# Altium footprint library PCBLib.PcbLib: 32 footprints (part 1 of 2)
Each footprint in its own frame and in the unit in brackets; x right, y up, seen from the top. Pads: shape width x height; smd on the part's side, far side on the other; paste and mask are expansions set on the pad; w line width, h text height; cw(c..) or ccw(c..) is an arc to the next point about the centre after c.
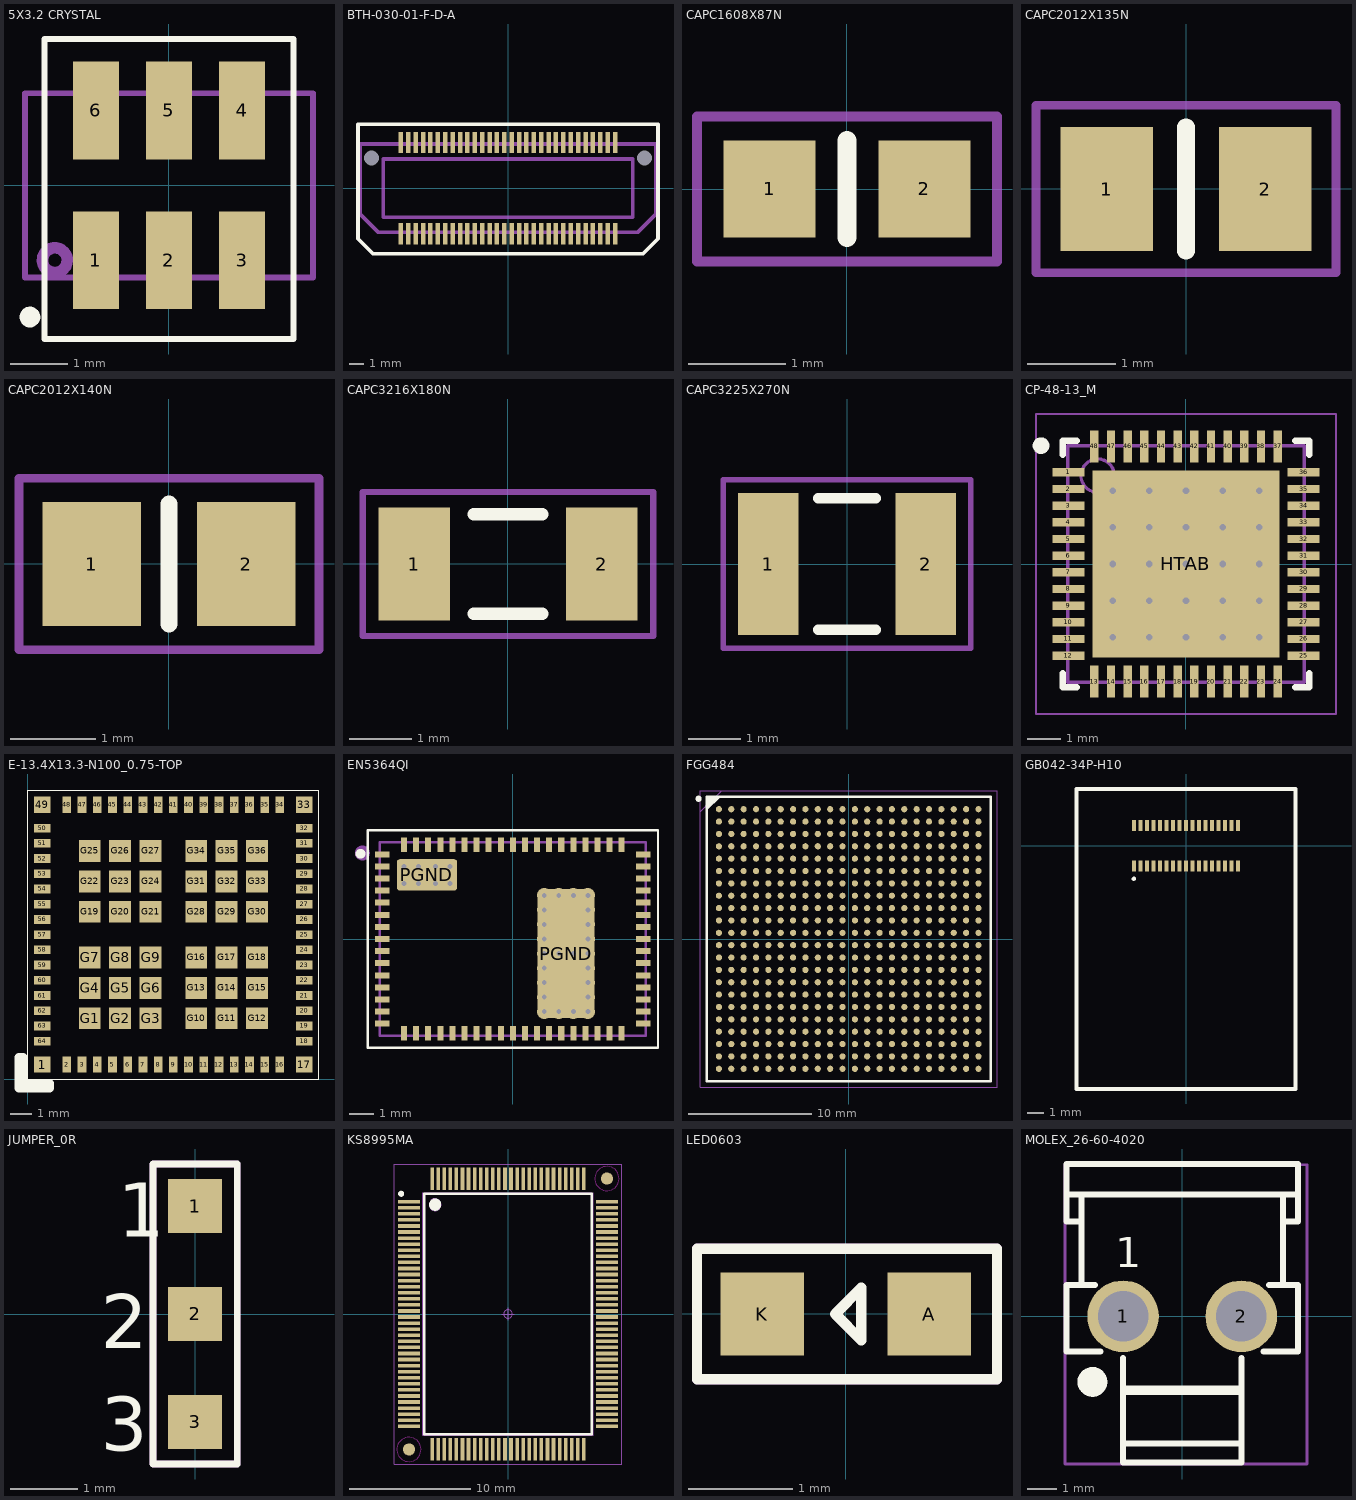
[diagram p0: the footprints below, top view; thin cyan lines are the x and y axes]

## 5X3.2 CRYSTAL [mm] "5X3.2 Crystal"
height 1.2
pads (6):
  rect 0.8x1.7 smd: 1(-1.27,-1.3) 2(0,-1.3) 3(1.27,-1.3) 4(1.27,1.3) 5(0,1.3) 6(-1.27,1.3)
Top Overlay:
  circle w0.2: c-2.413,-2.286 r0.079
  lines w0.1: -2.159,-2.667 2.159,-2.667 2.159,2.54 -2.159,2.54 -2.159,-0.858 -2.159,-2.667
Mechanical 4:
  lines w0.1: -2.5,-1.6 -2.5,1.6 2.5,1.6 2.5,-1.6 -2.5,-1.6
  lines w0.2: -1.809,-1.173 ccw(c-1.981,-1.3) -1.792,-1.199
  text ".designator" at -2.032,-0.508 h1
3D body "User Library-CRYSTALSMD5X32.STEP": height 1, standoff 0, extent -2.5,-1.625 2.5,1.575

## BTH-030-01-F-D-A [mm]
pads (62):
  rect 0.305x1.448 smd: 1(-7.25,3.086) 2(-7.25,-3.086) 3(-6.75,3.086) 4(-6.75,-3.086) 5(-6.25,3.086) 6(-6.25,-3.086) 7(-5.75,3.086) 8(-5.75,-3.086) 9(-5.25,3.086) 10(-5.25,-3.086) 11(-4.75,3.086) 12(-4.75,-3.086) 13(-4.25,3.086) 14(-4.25,-3.086) 15(-3.75,3.086) 16(-3.75,-3.086) 17(-3.25,3.086) 18(-3.25,-3.086) 19(-2.75,3.086) 20(-2.75,-3.086) 21(-2.25,3.086) 22(-2.25,-3.086) 23(-1.75,3.086) 24(-1.75,-3.086) 25(-1.25,3.086) 26(-1.25,-3.086) 27(-0.75,3.086) 28(-0.75,-3.086) 29(-0.25,3.086) 30(-0.25,-3.086) 31(0.25,3.086) 32(0.25,-3.086) 33(0.75,3.086) 34(0.75,-3.086) 35(1.25,3.086) 36(1.25,-3.086) 37(1.75,3.086) 38(1.75,-3.086) 39(2.25,3.086) 40(2.25,-3.086) 41(2.75,3.086) 42(2.75,-3.086) 43(3.25,3.086) 44(3.25,-3.086) 45(3.75,3.086) 46(3.75,-3.086) 47(4.25,3.086) 48(4.25,-3.086) 49(4.75,3.086) 50(4.75,-3.086) 51(5.25,3.086) 52(5.25,-3.086) 53(5.75,3.086) 54(5.75,-3.086) 55(6.25,3.086) 56(6.25,-3.086) 57(6.75,3.086) 58(6.75,-3.086) 59(7.25,3.086) 60(7.25,-3.086)
  round 0.8 hole 1.016 unplated mask+0.358: HOLE(-9.238,2.032) HOLE(9.238,2.032)
Top Overlay:
  lines w0.254: -10.16,-3.429 -10.16,4.318 10.16,4.318 10.16,-3.429 9.144,-4.445 -9.144,-4.445 -10.16,-3.429
Mechanical 4:
  lines w0.254: -10,-1.785 -10,2.984 10,2.984 10,-1.785 8.8,-2.985 -8.8,-2.985 -10,-1.785 ; -8.444,-1.969 -8.444,1.968 8.444,1.968 8.444,-1.969 -8.444,-1.969
  text ".Designator" at 0,0 h1
3D body "BTH-030-01-F-D-A.stp": height 4.27, standoff -0.75, extent -10.001,-3.556 10.001,3.556

## CAPC1608X87N [mm] "Chip Capacitor, Body 1.6x0.8mm IPC Medium Density"
height 0.87
pads (2):
  rect 0.95x1 smd: 1(-0.8,0) 2(0.8,0)
Top Overlay:
  lines w0.2: 0,-0.5 0,0.5
Mechanical 4:
  lines w0.1: -1.55,-0.75 1.55,-0.75 1.55,0.75 -1.55,0.75 -1.55,-0.75
  text ".Designator" at -1.524,-0.889 h1
3D body "CAPC1608X87N.stp": height 0.87, standoff 0, extent -0.875,-0.475 0.875,0.475

## CAPC2012X135N [mm] "Chip Capacitor, Body 2.0x1.25mm, IPC Medium Density"
height 1.35
pads (2):
  rect 1.05x1.4 smd: 1(-0.9,0) 2(0.9,0)
Top Overlay:
  lines w0.2: 0,-0.7 0,0.7
Mechanical 4:
  lines w0.1: -1.7,-0.95 -1.7,0.95 1.7,0.95 1.7,-0.95 -1.7,-0.95
  text ".Designator" at -1.6,-0.85 h1
3D body "CAPC2012X135N.stp": height 1.25, standoff 0, extent -1.05,-0.675 1.05,0.675

## CAPC2012X140N [mm] "Chip Capacitor, Body 2.0x1.25mm, IPC Medium Density"
height 1.4
pads (2):
  rect 1.15x1.45 smd: 1(-0.9,0) 2(0.9,0)
Top Overlay:
  lines w0.2: 0,-0.7 0,0.7
Mechanical 4:
  lines w0.1: -1.75,-1 1.75,-1 1.75,1 -1.75,1 -1.75,-1
  text ".Designator" at -1.524,-0.762 h1
3D body "CAPC2012X140N.stp": height 1.3, standoff 0, extent -1.05,-0.675 1.05,0.675

## CAPC3216X180N [mm] "Chip Capacitor, Body 3.2x1.6mm, IPC Medium Density"
height 1.8
pads (2):
  rect 1.15x1.8 smd: 1(-1.5,0) 2(1.5,0)
Top Overlay:
  lines w0.2: -0.55,-0.8 0.55,-0.8 ; -0.55,0.8 0.55,0.8
Mechanical 4:
  lines w0.1: -2.325,-1.15 -2.325,1.15 2.325,1.15 2.325,-1.15 -2.325,-1.15
  text ".Designator" at -2.175,-1 h1
3D body "CAPC3216X180N.stp": height 1.8, standoff 0, extent -1.7,-0.9 1.7,0.9

## CAPC3225X270N [mm] "Chip Capacitor, Body 3.2x2.5mm, IPC Medium Density"
height 2.7
pads (2):
  rect 1.15x2.7 smd: 1(-1.5,0) 2(1.5,0)
Top Overlay:
  lines w0.2: -0.55,-1.25 0.55,-1.25 ; -0.55,1.25 0.55,1.25
Mechanical 4:
  lines w0.1: -2.35,-1.6 2.35,-1.6 2.35,1.6 -2.35,1.6 -2.35,-1.6
  text ".Designator" at -2.15,-0.75 h1
3D body "CAPC3225X270N.stp": height 2.7, standoff 0, extent -1.7,-1.35 1.7,1.35

## CP-48-13_M [mm] "QFN, 48-Leads, Body 7x7mm, Pitch 0.5mm, Thermal Pad 5.6x5.6mm, IPC Low Density"
height 0.8
pads (49):
  rect 0.95x0.25 smd: 1(-3.525,2.75) 2(-3.525,2.25) 3(-3.525,1.75) 4(-3.525,1.25) 5(-3.525,0.75) 6(-3.525,0.25) 7(-3.525,-0.25) 8(-3.525,-0.75) 9(-3.525,-1.25) 10(-3.525,-1.75) 11(-3.525,-2.25) 12(-3.525,-2.75) 25(3.525,-2.75) 26(3.525,-2.25) 27(3.525,-1.75) 28(3.525,-1.25) 29(3.525,-0.75) 30(3.525,-0.25) 31(3.525,0.25) 32(3.525,0.75) 33(3.525,1.25) 34(3.525,1.75) 35(3.525,2.25) 36(3.525,2.75)
  rect 0.25x0.95 smd: 13(-2.75,-3.525) 14(-2.25,-3.525) 15(-1.75,-3.525) 16(-1.25,-3.525) 17(-0.75,-3.525) 18(-0.25,-3.525) 19(0.25,-3.525) 20(0.75,-3.525) 21(1.25,-3.525) 22(1.75,-3.525) 23(2.25,-3.525) 24(2.75,-3.525) 37(2.75,3.525) 38(2.25,3.525) 39(1.75,3.525) 40(1.25,3.525) 41(0.75,3.525) 42(0.25,3.525) 43(-0.25,3.525) 44(-0.75,3.525) 45(-1.25,3.525) 46(-1.75,3.525) 47(-2.25,3.525) 48(-2.75,3.525)
  rect 5.6x5.6 smd: HTAB(0,0)
via 2.2,-2.2 diameter 0.5 hole 0.2
via 1.1,-2.2 diameter 0.5 hole 0.2
via 0,-2.2 diameter 0.5 hole 0.2
via -1.1,-2.2 diameter 0.5 hole 0.2
via -2.2,-2.2 diameter 0.5 hole 0.2
via 2.2,-1.1 diameter 0.5 hole 0.2
via 1.1,-1.1 diameter 0.5 hole 0.2
via 0,-1.1 diameter 0.5 hole 0.2
via -1.1,-1.1 diameter 0.5 hole 0.2
via -2.2,-1.1 diameter 0.5 hole 0.2
via 2.2,0 diameter 0.5 hole 0.2
via 1.1,0 diameter 0.5 hole 0.2
via 0,0 diameter 0.5 hole 0.2
via -1.1,0 diameter 0.5 hole 0.2
via -2.2,0 diameter 0.5 hole 0.2
via 2.2,1.1 diameter 0.5 hole 0.2
via 1.1,1.1 diameter 0.5 hole 0.2
via 0,1.1 diameter 0.5 hole 0.2
via -1.1,1.1 diameter 0.5 hole 0.2
via -2.2,1.1 diameter 0.5 hole 0.2
via 2.2,2.2 diameter 0.5 hole 0.2
via 1.1,2.2 diameter 0.5 hole 0.2
via 0,2.2 diameter 0.5 hole 0.2
via -1.1,2.2 diameter 0.5 hole 0.2
via -2.2,2.2 diameter 0.5 hole 0.2
Top Overlay:
  circle w0.25: c-4.35,3.55 r0.125
  lines w0.2: -3.7,-3.275 -3.7,-3.7 -3.275,-3.7 ; -3.7,3.275 -3.7,3.7 -3.275,3.7 ; 3.275,-3.7 3.7,-3.7 3.7,-3.275 ; 3.275,3.7 3.7,3.7 3.7,3.275
Mechanical 13:
  circle w0.1: c-2.65,2.65 r0.5
  lines w0.1: -3.55,-3.55 3.55,-3.55 3.55,3.55 -3.55,3.55 -3.55,-3.55
Mechanical 15:
  lines w0.05: -4.5,-4.5 4.5,-4.5 4.5,4.5 -4.5,4.5 -4.5,-4.5
  lines w0.1: -0.5,0 0.5,0 ; 0,-0.5 0,0.5
3D body "CP_48_13-M.stp": height 0.78, standoff 0, extent -3.55,-3.55 3.55,3.55

## E-13.4X13.3-N100_0.75-TOP [mm]
pads (100):
  rect 0.75x0.75 smd mask+0.03: 1(0.675,0.675) 17(12.725,0.675) 33(12.725,12.625) 49(0.675,12.625)
  rect 0.4x0.75 smd mask+0.03: 2(1.8,0.675) 3(2.5,0.675) 4(3.2,0.675) 5(3.9,0.675) 6(4.6,0.675) 7(5.3,0.675) 8(6,0.675) 9(6.7,0.675) 10(7.4,0.675) 11(8.1,0.675) 12(8.8,0.675) 13(9.5,0.675) 14(10.2,0.675) 15(10.9,0.675) 16(11.6,0.675) 34(11.6,12.625) 35(10.9,12.625) 36(10.2,12.625) 37(9.5,12.625) 38(8.8,12.625) 39(8.1,12.625) 40(7.4,12.625) 41(6.7,12.625) 42(6,12.625) 43(5.3,12.625) 44(4.6,12.625) 45(3.9,12.625) 46(3.2,12.625) 47(2.5,12.625) 48(1.8,12.625)
  rect 0.75x0.4 smd mask+0.03: 18(12.725,1.75) 19(12.725,2.45) 20(12.725,3.15) 21(12.725,3.85) 22(12.725,4.55) 23(12.725,5.25) 24(12.725,5.95) 25(12.725,6.65) 26(12.725,7.35) 27(12.725,8.05) 28(12.725,8.75) 29(12.725,9.45) 30(12.725,10.15) 31(12.725,10.85) 32(12.725,11.55) 50(0.675,11.55) 51(0.675,10.85) 52(0.675,10.15) 53(0.675,9.45) 54(0.675,8.75) 55(0.675,8.05) 56(0.675,7.35) 57(0.675,6.65) 58(0.675,5.95) 59(0.675,5.25) 60(0.675,4.55) 61(0.675,3.85) 62(0.675,3.15) 63(0.675,2.45) 64(0.675,1.75)
  rect 1x1 smd mask+0.03: G1(2.85,2.8) G2(4.25,2.8) G3(5.65,2.8) G4(2.85,4.2) G5(4.25,4.2) G6(5.65,4.2) G7(2.85,5.6) G8(4.25,5.6) G9(5.65,5.6) G10(7.75,2.8) G11(9.15,2.8) G12(10.55,2.8) G13(7.75,4.2) G14(9.15,4.2) G15(10.55,4.2) G16(7.75,5.6) G17(9.15,5.6) G18(10.55,5.6) G19(2.85,7.7) G20(4.25,7.7) G21(5.65,7.7) G22(2.85,9.1) G23(4.25,9.1) G24(5.65,9.1) G25(2.85,10.5) G26(4.25,10.5) G27(5.65,10.5) G28(7.75,7.7) G29(9.15,7.7) G30(10.55,7.7) G31(7.75,9.1) G32(9.15,9.1) G33(10.55,9.1) G34(7.75,10.5) G35(9.15,10.5) G36(10.55,10.5)
Top Overlay:
  lines w0.05: 0,0 0,13.3 13.4,13.3 13.4,0 0,0
  lines w0.4: -0.4,-0.4 -0.4,1 -0.2,1 -0.2,-0.2 1,-0.2 1,-0.4 -0.4,-0.4
3D body: height 2.1, standoff 0, extent 0.97,0.97 1.57,1.57
3D body: height 2, standoff 0, extent 0,0 13.335,13.335

## EN5364QI [mm]
pads (70):
  rect 0.25x0.6 smd: AGND(2,3.9) AVIN(3,3.9) EAOUT(1,3.9) EN_PB(4,3.9) ENABLE(3.5,3.9) M/S(4.5,3.9) MAR1(-1,3.9) MAR2(-1.5,3.9) NC(-4.5,-3.9) NC(-4,-3.9) NC(-3.5,-3.9) NC(-3,-3.9) NC(-2.5,-3.9) NC(-2,-3.9) NC(-1.5,-3.9) NC(-1,-3.9) NC(-0.5,-3.9) NC(0,-3.9) NC(0.5,-3.9) OCP_ADJ(0.5,3.9) PGND(-4.5,3.9) PGND(-4,3.9) PGND(-3.5,3.9) PGND(-3,3.9) PGND(-2.5,3.9) PGND(1,-3.9) PGND(1.5,-3.9) PGND(2,-3.9) PGND(2.5,-3.9) PGND(3,-3.9) PGND(3.5,-3.9) PGND(4,-3.9) POK(2.5,3.9) PVIN(4.5,-3.9) S_DELAY(-0.5,3.9) SS(0,3.9) VFB(1.5,3.9) VSENSE(-2,3.9)
  rect 0.6x0.25 smd: NC(-5.4,-3.5) NC(-5.4,-3) NC(5.4,1) NC(5.4,1.5) NC(5.4,2) NC(5.4,2.5) PGND(-5.4,2) PGND(-5.4,2.5) PGND(-5.4,3) PGND(-5.4,3.5) PVIN(5.4,-3.5) PVIN(5.4,-3) PVIN(5.4,-2.5) PVIN(5.4,-2) PVIN(5.4,-1.5) PVIN(5.4,-1) PVIN(5.4,-0.5) PVIN(5.4,0) PVIN(5.4,0.5) SIN(5.4,3.5) SOUT(5.4,3) VOUT(-5.4,-2.5) VOUT(-5.4,-2) VOUT(-5.4,-1.5) VOUT(-5.4,-1) VOUT(-5.4,-0.5) VOUT(-5.4,0) VOUT(-5.4,0.5) VOUT(-5.4,1) VOUT(-5.4,1.5)
  rrect20% 2.5x1.3 smd: PGND(-3.55,2.65)
  rrect20% 2.35x5.35 smd: PGND(2.2,-0.6)
via -4.5,3 diameter 0.6 hole 0.2
via -4.5,2.3 diameter 0.6 hole 0.2
via -3.9,2.3 diameter 0.6 hole 0.2
via -2.6,2.3 diameter 0.6 hole 0.2
via -2.6,3 diameter 0.6 hole 0.2
via -3.9,3 diameter 0.6 hole 0.2
via -3.2,3 diameter 0.6 hole 0.2
via -3.2,2.3 diameter 0.6 hole 0.2
via 1.9,1.8 diameter 0.6 hole 0.2
via 2.5,1.8 diameter 0.6 hole 0.2
via 1.3,1.8 diameter 0.6 hole 0.2
via 1.3,1.2 diameter 0.6 hole 0.2
via 1.3,0.6 diameter 0.6 hole 0.2
via 1.3,0 diameter 0.6 hole 0.2
via 1.3,-0.6 diameter 0.6 hole 0.2
via 1.3,-1.2 diameter 0.6 hole 0.2
via 1.3,-1.8 diameter 0.6 hole 0.2
via 1.3,-2.4 diameter 0.6 hole 0.2
via 1.3,-3 diameter 0.6 hole 0.2
via 3.1,1.8 diameter 0.6 hole 0.2
via 3.1,1.2 diameter 0.6 hole 0.2
via 3.1,0.6 diameter 0.6 hole 0.2
via 3.1,0 diameter 0.6 hole 0.2
via 3.1,-0.6 diameter 0.6 hole 0.2
via 3.1,-1.2 diameter 0.6 hole 0.2
via 3.1,-1.8 diameter 0.6 hole 0.2
via 3.1,-2.4 diameter 0.6 hole 0.2
via 1.9,-3 diameter 0.6 hole 0.2
via 2.5,-3 diameter 0.6 hole 0.2
via 3.1,-3 diameter 0.6 hole 0.2
via 1.9,-0.6 diameter 0.6 hole 0.2
via 2.5,-0.6 diameter 0.6 hole 0.2
Top Overlay:
  circle w0.254: c-6.3,3.525 r0.075
  lines w0.1: -6,-4.5 -6,4.5 6,4.5 6,-4.5 -6,-4.5
Mechanical 4:
  circle w0.254: c-6.223,3.556 r0.18
  lines w0.1: -5.5,-4 -5.5,4 5.5,4 5.5,-4 -5.5,-4
  text ".Designator" at -0.1,-0.1 h1
3D body: height 1.85, standoff 0, extent -5.5,-4 5.5,4

## FGG484 [mm] "BGA, 484-Balls, Body 23x23mm, Pitch 1mm"
height 2.6
pads (484):
  round 0.5 smd: A1(-10.5,10.5) A2(-9.5,10.5) A3(-8.5,10.5) A4(-7.5,10.5) A5(-6.5,10.5) A6(-5.5,10.5) A7(-4.5,10.5) A8(-3.5,10.5) A9(-2.5,10.5) A10(-1.5,10.5) A11(-0.5,10.5) A12(0.5,10.5) A13(1.5,10.5) A14(2.5,10.5) A15(3.5,10.5) A16(4.5,10.5) A17(5.5,10.5) A18(6.5,10.5) A19(7.5,10.5) A20(8.5,10.5) A21(9.5,10.5) A22(10.5,10.5) AA1(-10.5,-9.5) AA2(-9.5,-9.5) AA3(-8.5,-9.5) AA4(-7.5,-9.5) AA5(-6.5,-9.5) AA6(-5.5,-9.5) AA7(-4.5,-9.5) AA8(-3.5,-9.5) AA9(-2.5,-9.5) AA10(-1.5,-9.5) AA11(-0.5,-9.5) AA12(0.5,-9.5) AA13(1.5,-9.5) AA14(2.5,-9.5) AA15(3.5,-9.5) AA16(4.5,-9.5) AA17(5.5,-9.5) AA18(6.5,-9.5) AA19(7.5,-9.5) AA20(8.5,-9.5) AA21(9.5,-9.5) AA22(10.5,-9.5) AB1(-10.5,-10.5) AB2(-9.5,-10.5) AB3(-8.5,-10.5) AB4(-7.5,-10.5) AB5(-6.5,-10.5) AB6(-5.5,-10.5) AB7(-4.5,-10.5) AB8(-3.5,-10.5) AB9(-2.5,-10.5) AB10(-1.5,-10.5) AB11(-0.5,-10.5) AB12(0.5,-10.5) AB13(1.5,-10.5) AB14(2.5,-10.5) AB15(3.5,-10.5) AB16(4.5,-10.5) AB17(5.5,-10.5) AB18(6.5,-10.5) AB19(7.5,-10.5) AB20(8.5,-10.5) AB21(9.5,-10.5) AB22(10.5,-10.5) B1(-10.5,9.5) B2(-9.5,9.5) B3(-8.5,9.5) B4(-7.5,9.5) B5(-6.5,9.5) B6(-5.5,9.5) B7(-4.5,9.5) B8(-3.5,9.5) B9(-2.5,9.5) B10(-1.5,9.5) B11(-0.5,9.5) B12(0.5,9.5) B13(1.5,9.5) B14(2.5,9.5) B15(3.5,9.5) B16(4.5,9.5) B17(5.5,9.5) B18(6.5,9.5) B19(7.5,9.5) B20(8.5,9.5) B21(9.5,9.5) B22(10.5,9.5) C1(-10.5,8.5) C2(-9.5,8.5) C3(-8.5,8.5) C4(-7.5,8.5) C5(-6.5,8.5) C6(-5.5,8.5) C7(-4.5,8.5) C8(-3.5,8.5) C9(-2.5,8.5) C10(-1.5,8.5) C11(-0.5,8.5) C12(0.5,8.5) C13(1.5,8.5) C14(2.5,8.5) C15(3.5,8.5) C16(4.5,8.5) C17(5.5,8.5) C18(6.5,8.5) C19(7.5,8.5) C20(8.5,8.5) C21(9.5,8.5) C22(10.5,8.5) D1(-10.5,7.5) D2(-9.5,7.5) D3(-8.5,7.5) D4(-7.5,7.5) D5(-6.5,7.5) D6(-5.5,7.5) D7(-4.5,7.5) D8(-3.5,7.5) D9(-2.5,7.5) D10(-1.5,7.5) D11(-0.5,7.5) D12(0.5,7.5) D13(1.5,7.5) D14(2.5,7.5) D15(3.5,7.5) D16(4.5,7.5) D17(5.5,7.5) D18(6.5,7.5) D19(7.5,7.5) D20(8.5,7.5) D21(9.5,7.5) D22(10.5,7.5) E1(-10.5,6.5) E2(-9.5,6.5) E3(-8.5,6.5) E4(-7.5,6.5) E5(-6.5,6.5) E6(-5.5,6.5) E7(-4.5,6.5) E8(-3.5,6.5) E9(-2.5,6.5) E10(-1.5,6.5) E11(-0.5,6.5) E12(0.5,6.5) E13(1.5,6.5) E14(2.5,6.5) E15(3.5,6.5) E16(4.5,6.5) E17(5.5,6.5) E18(6.5,6.5) E19(7.5,6.5) E20(8.5,6.5) E21(9.5,6.5) E22(10.5,6.5) F1(-10.5,5.5) F2(-9.5,5.5) F3(-8.5,5.5) F4(-7.5,5.5) F5(-6.5,5.5) F6(-5.5,5.5) F7(-4.5,5.5) F8(-3.5,5.5) F9(-2.5,5.5) F10(-1.5,5.5) F11(-0.5,5.5) F12(0.5,5.5) F13(1.5,5.5) F14(2.5,5.5) F15(3.5,5.5) F16(4.5,5.5) F17(5.5,5.5) F18(6.5,5.5) F19(7.5,5.5) F20(8.5,5.5) F21(9.5,5.5) F22(10.5,5.5) G1(-10.5,4.5) G2(-9.5,4.5) G3(-8.5,4.5) G4(-7.5,4.5) G5(-6.5,4.5) G6(-5.5,4.5) G7(-4.5,4.5) G8(-3.5,4.5) G9(-2.5,4.5) G10(-1.5,4.5) G11(-0.5,4.5) G12(0.5,4.5) G13(1.5,4.5) G14(2.5,4.5) G15(3.5,4.5) G16(4.5,4.5) G17(5.5,4.5) G18(6.5,4.5) G19(7.5,4.5) G20(8.5,4.5) G21(9.5,4.5) G22(10.5,4.5) H1(-10.5,3.5) H2(-9.5,3.5) H3(-8.5,3.5) H4(-7.5,3.5) H5(-6.5,3.5) H6(-5.5,3.5) H7(-4.5,3.5) H8(-3.5,3.5) H9(-2.5,3.5) H10(-1.5,3.5) H11(-0.5,3.5) H12(0.5,3.5) H13(1.5,3.5) H14(2.5,3.5) H15(3.5,3.5) H16(4.5,3.5) H17(5.5,3.5) H18(6.5,3.5) H19(7.5,3.5) H20(8.5,3.5) H21(9.5,3.5) H22(10.5,3.5) J1(-10.5,2.5) J2(-9.5,2.5) J3(-8.5,2.5) J4(-7.5,2.5) J5(-6.5,2.5) J6(-5.5,2.5) J7(-4.5,2.5) J8(-3.5,2.5) J9(-2.5,2.5) J10(-1.5,2.5) J11(-0.5,2.5) J12(0.5,2.5) J13(1.5,2.5) J14(2.5,2.5) J15(3.5,2.5) J16(4.5,2.5) J17(5.5,2.5) J18(6.5,2.5) J19(7.5,2.5) J20(8.5,2.5) J21(9.5,2.5) J22(10.5,2.5) K1(-10.5,1.5) K2(-9.5,1.5) K3(-8.5,1.5) K4(-7.5,1.5) K5(-6.5,1.5) K6(-5.5,1.5) K7(-4.5,1.5) K8(-3.5,1.5) K9(-2.5,1.5) K10(-1.5,1.5) K11(-0.5,1.5) K12(0.5,1.5) K13(1.5,1.5) K14(2.5,1.5) K15(3.5,1.5) K16(4.5,1.5) K17(5.5,1.5) K18(6.5,1.5) K19(7.5,1.5) K20(8.5,1.5) K21(9.5,1.5) K22(10.5,1.5) L1(-10.5,0.5) L2(-9.5,0.5) L3(-8.5,0.5) L4(-7.5,0.5) L5(-6.5,0.5) L6(-5.5,0.5) L7(-4.5,0.5) L8(-3.5,0.5) L9(-2.5,0.5) L10(-1.5,0.5) L11(-0.5,0.5) L12(0.5,0.5) L13(1.5,0.5) L14(2.5,0.5) L15(3.5,0.5) L16(4.5,0.5) L17(5.5,0.5) L18(6.5,0.5) L19(7.5,0.5) L20(8.5,0.5) L21(9.5,0.5) L22(10.5,0.5) M1(-10.5,-0.5) M2(-9.5,-0.5) M3(-8.5,-0.5) M4(-7.5,-0.5) M5(-6.5,-0.5) M6(-5.5,-0.5) M7(-4.5,-0.5) M8(-3.5,-0.5) M9(-2.5,-0.5) M10(-1.5,-0.5) M11(-0.5,-0.5) M12(0.5,-0.5) M13(1.5,-0.5) M14(2.5,-0.5) M15(3.5,-0.5) M16(4.5,-0.5) M17(5.5,-0.5) M18(6.5,-0.5) M19(7.5,-0.5) M20(8.5,-0.5) M21(9.5,-0.5) M22(10.5,-0.5) N1(-10.5,-1.5) N2(-9.5,-1.5) N3(-8.5,-1.5) N4(-7.5,-1.5) N5(-6.5,-1.5) N6(-5.5,-1.5) N7(-4.5,-1.5) N8(-3.5,-1.5) N9(-2.5,-1.5) N10(-1.5,-1.5) N11(-0.5,-1.5) N12(0.5,-1.5) N13(1.5,-1.5) N14(2.5,-1.5) N15(3.5,-1.5) N16(4.5,-1.5) N17(5.5,-1.5) N18(6.5,-1.5) N19(7.5,-1.5) N20(8.5,-1.5) N21(9.5,-1.5) N22(10.5,-1.5) P1(-10.5,-2.5) P2(-9.5,-2.5) P3(-8.5,-2.5) P4(-7.5,-2.5) P5(-6.5,-2.5) P6(-5.5,-2.5) P7(-4.5,-2.5) P8(-3.5,-2.5) P9(-2.5,-2.5) P10(-1.5,-2.5) P11(-0.5,-2.5) P12(0.5,-2.5) P13(1.5,-2.5) P14(2.5,-2.5) P15(3.5,-2.5) P16(4.5,-2.5) P17(5.5,-2.5) P18(6.5,-2.5) P19(7.5,-2.5) P20(8.5,-2.5) P21(9.5,-2.5) P22(10.5,-2.5) R1(-10.5,-3.5) R2(-9.5,-3.5) R3(-8.5,-3.5) R4(-7.5,-3.5) R5(-6.5,-3.5) R6(-5.5,-3.5) R7(-4.5,-3.5) R8(-3.5,-3.5) R9(-2.5,-3.5) R10(-1.5,-3.5) R11(-0.5,-3.5) R12(0.5,-3.5) R13(1.5,-3.5) R14(2.5,-3.5) R15(3.5,-3.5) R16(4.5,-3.5) R17(5.5,-3.5) R18(6.5,-3.5) R19(7.5,-3.5) R20(8.5,-3.5) R21(9.5,-3.5) R22(10.5,-3.5) T1(-10.5,-4.5) T2(-9.5,-4.5) T3(-8.5,-4.5) T4(-7.5,-4.5) T5(-6.5,-4.5) T6(-5.5,-4.5) T7(-4.5,-4.5) T8(-3.5,-4.5) T9(-2.5,-4.5) T10(-1.5,-4.5) T11(-0.5,-4.5) T12(0.5,-4.5) T13(1.5,-4.5) T14(2.5,-4.5) T15(3.5,-4.5) T16(4.5,-4.5) T17(5.5,-4.5) T18(6.5,-4.5) T19(7.5,-4.5) T20(8.5,-4.5) T21(9.5,-4.5) T22(10.5,-4.5) U1(-10.5,-5.5) U2(-9.5,-5.5) U3(-8.5,-5.5) U4(-7.5,-5.5) U5(-6.5,-5.5) U6(-5.5,-5.5) U7(-4.5,-5.5) U8(-3.5,-5.5) U9(-2.5,-5.5) U10(-1.5,-5.5) U11(-0.5,-5.5) U12(0.5,-5.5) U13(1.5,-5.5) U14(2.5,-5.5) U15(3.5,-5.5) U16(4.5,-5.5) U17(5.5,-5.5) U18(6.5,-5.5) U19(7.5,-5.5) U20(8.5,-5.5) U21(9.5,-5.5) U22(10.5,-5.5) V1(-10.5,-6.5) V2(-9.5,-6.5) V3(-8.5,-6.5) V4(-7.5,-6.5) V5(-6.5,-6.5) V6(-5.5,-6.5) V7(-4.5,-6.5) V8(-3.5,-6.5) V9(-2.5,-6.5) V10(-1.5,-6.5) V11(-0.5,-6.5) V12(0.5,-6.5) V13(1.5,-6.5) V14(2.5,-6.5) V15(3.5,-6.5) V16(4.5,-6.5) V17(5.5,-6.5) V18(6.5,-6.5) V19(7.5,-6.5) V20(8.5,-6.5) V21(9.5,-6.5) V22(10.5,-6.5) W1(-10.5,-7.5) W2(-9.5,-7.5) W3(-8.5,-7.5) W4(-7.5,-7.5) W5(-6.5,-7.5) W6(-5.5,-7.5) W7(-4.5,-7.5) W8(-3.5,-7.5) W9(-2.5,-7.5) W10(-1.5,-7.5) W11(-0.5,-7.5) W12(0.5,-7.5) W13(1.5,-7.5) W14(2.5,-7.5) W15(3.5,-7.5) W16(4.5,-7.5) W17(5.5,-7.5) W18(6.5,-7.5) W19(7.5,-7.5) W20(8.5,-7.5) W21(9.5,-7.5) W22(10.5,-7.5) Y1(-10.5,-8.5) Y2(-9.5,-8.5) Y3(-8.5,-8.5) Y4(-7.5,-8.5) Y5(-6.5,-8.5) Y6(-5.5,-8.5) Y7(-4.5,-8.5) Y8(-3.5,-8.5) Y9(-2.5,-8.5) Y10(-1.5,-8.5) Y11(-0.5,-8.5) Y12(0.5,-8.5) Y13(1.5,-8.5) Y14(2.5,-8.5) Y15(3.5,-8.5) Y16(4.5,-8.5) Y17(5.5,-8.5) Y18(6.5,-8.5) Y19(7.5,-8.5) Y20(8.5,-8.5) Y21(9.5,-8.5) Y22(10.5,-8.5)
Top Overlay:
  circle w0.25: c-12.15,11.35 r0.125
  region: -10.5,11.5 -11.5,10.5 -11.5,11.5
  lines w0.2: -11.5,10.5 -10.5,11.5 ; -11.5,-11.5 -11.5,11.5 11.5,11.5 11.5,-11.5 -11.5,-11.5
Mechanical 4:
  lines w0.1: -12,10.287 -10.287,12 -10.16,12 ; -12,-12 12,-12 12,12 -12,12 -12,-12
  text ".Designator" at 0,0 h1
3D body: height 2.6, standoff 0.35, extent -11.5,-11.5 11.5,11.5

## GB042-34P-H10 [mm]
pads (34):
  rect 0.23x0.7 smd: 1(-3.2,-1.25) 2(-2.8,-1.25) 3(-2.4,-1.25) 4(-2,-1.25) 5(-1.6,-1.25) 6(-1.2,-1.25) 7(-0.8,-1.25) 8(-0.4,-1.25) 9(0,-1.25) 10(0.4,-1.25) 11(0.8,-1.25) 12(1.2,-1.25) 13(1.6,-1.25) 14(2,-1.25) 15(2.4,-1.25) 16(2.8,-1.25) 17(3.2,-1.25) 18(3.2,1.25) 19(2.8,1.25) 20(2.4,1.25) 21(2,1.25) 22(1.6,1.25) 23(1.2,1.25) 24(0.8,1.25) 25(0.4,1.25) 26(0,1.25) 27(-0.4,1.25) 28(-0.8,1.25) 29(-1.2,1.25) 30(-1.6,1.25) 31(-2,1.25) 32(-2.4,1.25) 33(-2.8,1.25) 34(-3.2,1.25)
Top Overlay:
  lines w0.254: -3.225,-2.05 -3.2,-2.025 ; -6.75,-15 -6.75,3.5 6.75,3.5 6.75,-15 -6.75,-15
Mechanical 4:
  lines w0.1: -6.7,-15 6.7,-15 6.7,3.5 -6.7,3.5 -6.7,-15
  text ".Designator" at -1.397,-5.08 h1
3D body: height 5.4, standoff 5, extent -6.25,-13.85 6.325,-1.6
3D body: height 5, standoff 4, extent -6.775,-15.025 6.75,3.525

## JUMPER_0R [mm]
pads (3):
  rect 0.8x0.8 smd: 1(0,1.6) 2(0,0) 3(0,-1.6)
Top Overlay:
  lines w0.1: -0.625,-0.65 -0.625,2.225 0.625,2.225 0.625,-0.65 ; -0.625,0.65 -0.625,-2.225 0.625,-2.225 0.625,0.65
  text "3" at -1.397,-2.032 h0.8
  text "2" at -1.397,-0.508 h0.8
  text "1" at -1.143,1.143 h0.8
Mechanical 4:
  lines w0.1: -0.625,-0.65 -0.625,2.225 0.625,2.225 0.625,-0.65 ; -0.625,0.65 -0.625,-2.225 0.625,-2.225 0.625,0.65
  text ".Designator" at 0.4,-2 h0.9
3D body "R0603.step": height 0.38, standoff 0, extent -0.4,-1.55 0.4,0.05

## KS8995MA [mm]
pads (130):
  rect 1.85x0.3 smd: 1(-8.15,9.25) 2(-8.15,8.75) 3(-8.15,8.25) 4(-8.15,7.75) 5(-8.15,7.25) 6(-8.15,6.75) 7(-8.15,6.25) 8(-8.15,5.75) 9(-8.15,5.25) 10(-8.15,4.75) 11(-8.15,4.25) 12(-8.15,3.75) 13(-8.15,3.25) 14(-8.15,2.75) 15(-8.15,2.25) 16(-8.15,1.75) 17(-8.15,1.25) 18(-8.15,0.75) 19(-8.15,0.25) 20(-8.15,-0.25) 21(-8.15,-0.75) 22(-8.15,-1.25) 23(-8.15,-1.75) 24(-8.15,-2.25) 25(-8.15,-2.75) 26(-8.15,-3.25) 27(-8.15,-3.75) 28(-8.15,-4.25) 29(-8.15,-4.75) 30(-8.15,-5.25) 31(-8.15,-5.75) 32(-8.15,-6.25) 33(-8.15,-6.75) 34(-8.15,-7.25) 35(-8.15,-7.75) 36(-8.15,-8.25) 37(-8.15,-8.75) 38(-8.15,-9.25) 65(8.15,-9.25) 66(8.15,-8.75) 67(8.15,-8.25) 68(8.15,-7.75) 69(8.15,-7.25) 70(8.15,-6.75) 71(8.15,-6.25) 72(8.15,-5.75) 73(8.15,-5.25) 74(8.15,-4.75) 75(8.15,-4.25) 76(8.15,-3.75) 77(8.15,-3.25) 78(8.15,-2.75) 79(8.15,-2.25) 80(8.15,-1.75) 81(8.15,-1.25) 82(8.15,-0.75) 83(8.15,-0.25) 84(8.15,0.25) 85(8.15,0.75) 86(8.15,1.25) 87(8.15,1.75) 88(8.15,2.25) 89(8.15,2.75) 90(8.15,3.25) 91(8.15,3.75) 92(8.15,4.25) 93(8.15,4.75) 94(8.15,5.25) 95(8.15,5.75) 96(8.15,6.25) 97(8.15,6.75) 98(8.15,7.25) 99(8.15,7.75) 100(8.15,8.25) 101(8.15,8.75) 102(8.15,9.25)
  rect 0.3x1.85 smd: 39(-6.25,-11.15) 40(-5.75,-11.15) 41(-5.25,-11.15) 42(-4.75,-11.15) 43(-4.25,-11.15) 44(-3.75,-11.15) 45(-3.25,-11.15) 46(-2.75,-11.15) 47(-2.25,-11.15) 48(-1.75,-11.15) 49(-1.25,-11.15) 50(-0.75,-11.15) 51(-0.25,-11.15) 52(0.25,-11.15) 53(0.75,-11.15) 54(1.25,-11.15) 55(1.75,-11.15) 56(2.25,-11.15) 57(2.75,-11.15) 58(3.25,-11.15) 59(3.75,-11.15) 60(4.25,-11.15) 61(4.75,-11.15) 62(5.25,-11.15) 63(5.75,-11.15) 64(6.25,-11.15) 103(6.25,11.15) 104(5.75,11.15) 105(5.25,11.15) 106(4.75,11.15) 107(4.25,11.15) 108(3.75,11.15) 109(3.25,11.15) 110(2.75,11.15) 111(2.25,11.15) 112(1.75,11.15) 113(1.25,11.15) 114(0.75,11.15) 115(0.25,11.15) 116(-0.25,11.15) 117(-0.75,11.15) 118(-1.25,11.15) 119(-1.75,11.15) 120(-2.25,11.15) 121(-2.75,11.15) 122(-3.25,11.15) 123(-3.75,11.15) 124(-4.25,11.15) 125(-4.75,11.15) 126(-5.25,11.15) 127(-5.75,11.15) 128(-6.25,11.15)
  round 1 smd paste-0.51 mask+0.5: FTG1(-8.15,-11.15) FTG2(8.15,11.15)
Top Layer keep-out:
  circle w0.1: c8.15,11.15 r1
  circle w0.1: c-8.15,-11.15 r1
Top Overlay:
  circle w0.25: c-8.8,9.9 r0.125
  circle w0.5: c-6,9 r0.25
  lines w0.2: -6.9,-9.9 -6.9,9.9 6.9,9.9 6.9,-9.9 -6.9,-9.9
Mechanical 14:
  circle w0.1: c-6,9 r0.5
  lines w0.1: -7,-10 -7,10 7,10 7,-10 -7,-10
Mechanical 15:
  circle w0.05: c0,0 r0.35
  lines w0.05: -0.5,0 0.5,0 ; 0,-0.5 0,0.5 ; -9.35,-12.35 -9.35,12.35 9.35,12.35 9.35,-12.35 -9.35,-12.35
3D body "QFP50P1720X2320X340-128N.stp": height 3.4, standoff 0, extent -8.621,-11.621 8.621,11.621

## LED0603 [mm]
pads (2):
  rect 0.8x0.8 smd: A(0.8,0) K(-0.8,0)
Top Overlay:
  lines w0.1: -1.425,-0.625 -1.425,0.625 1.45,0.625 1.45,-0.625 -1.425,-0.625 ; -0.1,0 0.15,0.25 0.15,-0.25 -0.1,0
Mechanical 4:
  lines w0.1: -1.425,-0.625 1.45,-0.625 1.45,0.625 -1.425,0.625 -1.425,-0.625
  text ".Designator" at -1.27,-0.508 h0.9
3D body "User Library-LTST-C190GKT.STEP": height 0.9, standoff 0, extent -0.85,-0.45 0.85,0.45

## MOLEX_26-60-4020 [mm] "3.96mm (.156\") Pitch KK® Solid Header, Vertical, Friction Lock, 2 Circuits, Tin (Sn) Plating"
height 14.73
pads (2):
  round 2.4 hole 1.7: 1(-1.981,0) 2(1.981,0)
Top Overlay:
  circle w0.5: c-3.011,-2.2 r0.25
  lines w0.2: -3.886,4.089 3.886,4.089 ; -3.378,1.041 -3.378,4.089 ; -3.378,3.182 -3.886,3.182 -3.886,5.105 3.886,5.105 3.886,3.182 3.378,3.182 ; -2.917,1.041 -3.886,1.041 -3.886,-1.181 -2.733,-1.181 ; -1.981,-4.267 1.981,-4.267 ; -1.981,-2.548 1.981,-2.548 ; -1.981,-2.413 1.981,-2.413 ; -1.981,-1.4 -1.981,-4.902 1.981,-4.902 1.981,-1.4 ; 2.733,-1.181 3.886,-1.181 3.886,1.041 2.917,1.041 ; 3.378,1.041 3.378,4.089
  text "1" at -2.249,1.65 h1
Mechanical 4:
  lines w0.1: -3.937,-4.953 -3.937,5.08 4.191,5.08 4.191,-4.953 -3.937,-4.953
  text ".Designator" at -2.905,2.598 h1
3D body "MOLEX_26-60-4020.stp": height 14.73, standoff -3.56, extent -3.886,-4.902 3.886,5.106